# Altium schematic symbol library IC_TI_TPS25910RSAR.SchLib: 1 symbol
Pins are listed as number, name and electrical type; pins without a type are passive.

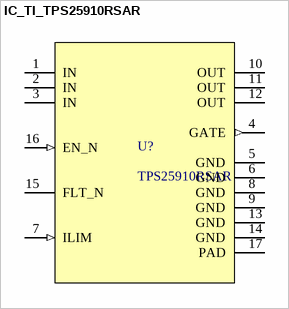
[diagram p0: symbol IC_TI_TPS25910RSAR]

## IC_TI_TPS25910RSAR
designator U?, comment TPS25910RSAR
2.9-V to 20-V, 30mÎ©, 0.8-6.5A eFuse 16-QFN -40 to 125; Manufacturer_Name: Texas Instruments; TYPE: TYPE; RefDes: RefDes; Copyright: Copyright (C) 2025 Ultra Librarian. All rights reserved.; Manufacturer_Part_Number: TPS25910RSAR
footprint IC_TI_TPS25910RSAR
pins: 1 IN (power), 2 IN (power), 3 IN (power), 4 GATE (out), 5 GND (power), 6 GND (power), 7 ILIM (in), 8 GND (power), 9 GND (power), 10 OUT (power), 11 OUT (power), 12 OUT (power), 13 GND (power), 14 GND (power), 15 FLT_N (oc), 16 EN_N (in), 17 PAD